# EAGLE library part TI-TPS6224X (library EagleLibrary)
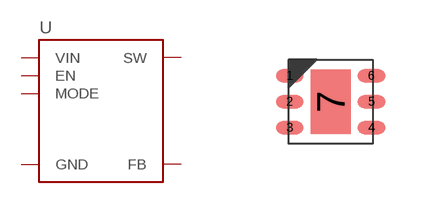
[diagram p32: symbol with the pads of TI-TPS6224XDRV; footprint TI-TPS6224XDRV]

Designator prefix U

## TI-TPS6224X (MFG: Texas Instruments)  [TI-TPS6224XDRV]
1  SW
2  MODE
3  FB
4  EN
5  VIN
6  GND
7  GND

## Footprint TI-TPS6224XDRV (pad centres in mm)
6-SON (DFN), 0.65 mm pitch, 2.00 X 2.00 X 0.80 mm body, 1.60 X 1.00 mm thermal pad 6-pin SON (DFN) package with 0.65 mm pitch with body size 2.00 X 2.00 X 0.80 mm and thermal pad size 1.60 X 1.00 mm
smd 0.688 x 0.32: 1 -1.021,0.65; 2 -1.021,0; 3 -1.021,-0.65; 4 1.021,-0.65; 5 1.021,0; 6 1.021,0.65
smd 1 x 1.6: 7 0,0